# Altium schematic symbol library FU_FUSE.SchLib: 1 symbol
Pins are listed as number, name and electrical type; pins without a type are passive.

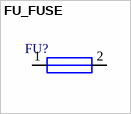
[diagram p0: symbol FU_FUSE]

## FU_FUSE
designator FU?
pins: 1, 2